# Altium schematic symbol library RT0603BRD07330KL.SchLib: 1 symbol
Pins are listed as number, name and electrical type; pins without a type are passive.

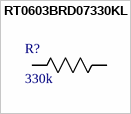
[diagram p0: symbol RT0603BRD07330KL]

## RT0603BRD07330KL
designator R?, comment 330k
No Description Available; Manufacturer_Name: Yageo; Manufacturer_Part_Number: RT0603BRD07330KL; Copyright: Copyright (C) 2025 Ultra Librarian. All rights reserved.
footprint RC0603N_YAG
pins: 1, 2